# Altium footprint library MPU-6050.PcbLib: 1 footprints
Each footprint in its own frame and in the unit in brackets; x right, y up, seen from the top. Pads: shape width x height; smd on the part's side, far side on the other; paste and mask are expansions set on the pad; w line width, h text height; cw(c..) or ccw(c..) is an arc to the next point about the centre after c.
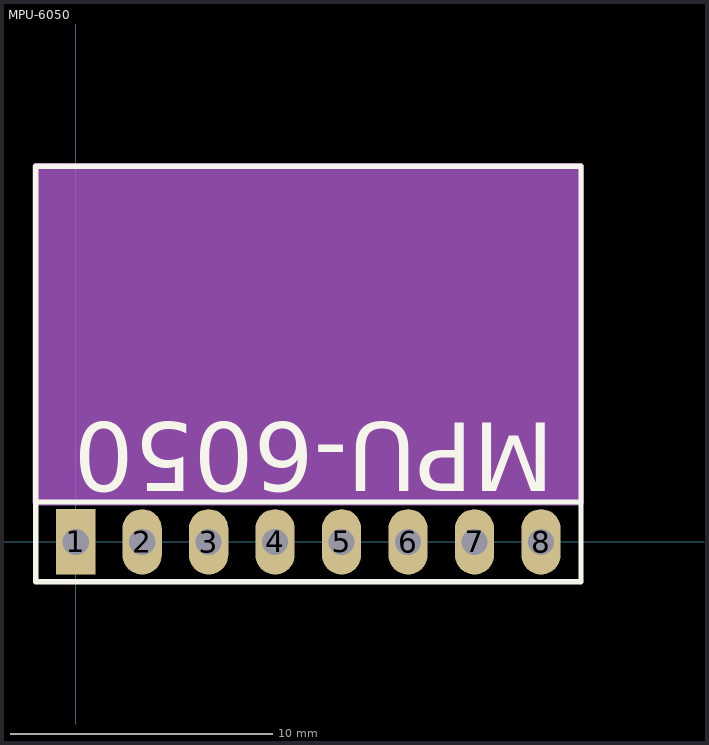
[diagram p0: the footprint, top view; thin cyan lines are the x and y axes]

## MPU-6050 [mm]
pads (8):
  rect 1.5x2.5 hole 1: 1(0,0)
  oval 1.5x2.5 hole 1: 2(2.54,0) 3(5.08,0) 4(7.62,0) 5(10.16,0) 6(12.7,0) 7(15.24,0) 8(17.78,0)
Top Overlay:
  lines w0.2: -1.524,1.524 19.304,1.524 ; -1.524,-1.524 -1.524,14.351 19.304,14.351 19.304,-1.524 -1.524,-1.524
  text "MPU-6050" at 18.292,5.412 h4.5
Mechanical 1:
  pour cut-out: -1.524,14.351 19.304,14.351 19.304,1.524 -1.524,1.524
  lines w0.254: -1.524,1.524 19.304,1.524 19.304,14.351 -1.524,14.351 -1.524,1.524